# Altium footprint library WE-LHMD.PcbLib: 2 footprints
Each footprint in its own frame and in the unit in brackets; x right, y up, seen from the top. Pads: shape width x height; smd on the part's side, far side on the other; paste and mask are expansions set on the pad; w line width, h text height; cw(c..) or ccw(c..) is an arc to the next point about the centre after c.
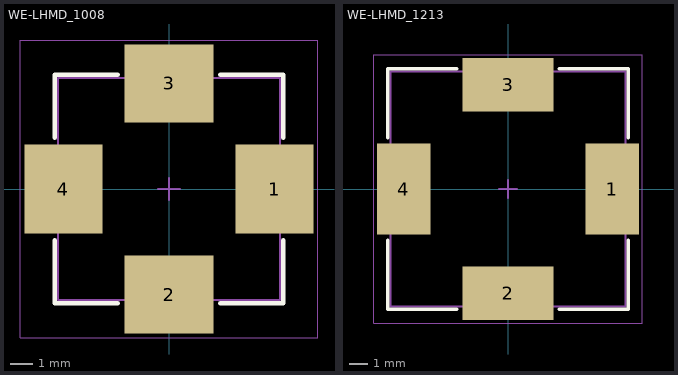
[diagram p0: the footprints below, top view; thin cyan lines are the x and y axes]

## WE-LHMD_1008 [mm] "SMT High Current Inductor, body 10x10mm"
height 8
pads (4):
  rect 3.5x4 smd: 1(4.75,0) 4(-4.75,0)
  rect 4x3.5 smd: 2(0,-4.75) 3(0,4.75)
Top Overlay:
  lines w0.2: -5.15,-2.3 -5.15,-5.15 -2.3,-5.15 ; -5.15,2.3 -5.15,5.15 -2.3,5.15 ; 2.3,-5.15 5.15,-5.15 5.15,-2.3 ; 2.3,5.15 5.15,5.15 5.15,2.3
Top Assembly:
  lines w0.1: -5,-5 5,-5 5,5 -5,5 -5,-5
Top Designator:
  text ".Designator" at -3.647,-0.357 h1
Top 3D Body:
  lines w0.1: -5,-5 5,-5 5,5 -5,5 -5,-5
Top Courtyard:
  lines w0.05: -6.7,-6.7 6.7,-6.7 6.7,6.7 -6.7,6.7 -6.7,-6.7
Top Component Center:
  lines w0.1: -0.5,0 0.5,0 ; 0,-0.5 0,0.5
3D body "74434xxxxxx.stp": height 8, standoff 0, extent -5.6,-5.6 5.6,5.6

## WE-LHMD_1213 [mm] "SMT High Current Inductor, body 12.85x12.85mm"
height 13
pads (4):
  rect 2.9x5 smd: 1(5.7,0) 4(-5.7,0)
  rect 5x2.9 smd: 2(0,-5.7) 3(0,5.7)
Top Overlay:
  lines w0.2: -6.575,-2.8 -6.575,-6.575 -2.8,-6.575 ; -6.575,2.8 -6.575,6.575 -2.8,6.575 ; 2.8,-6.575 6.575,-6.575 6.575,-2.8 ; 2.8,6.575 6.575,6.575 6.575,2.8
Top Assembly:
  lines w0.1: -6.425,-6.425 6.425,-6.425 6.425,6.425 -6.425,6.425 -6.425,-6.425
Top Designator:
  text ".Designator" at -3.647,-0.357 h1
Top 3D Body:
  lines w0.1: -6.425,-6.425 6.425,-6.425 6.425,6.425 -6.425,6.425 -6.425,-6.425
Top Courtyard:
  lines w0.05: -7.35,-7.35 7.35,-7.35 7.35,7.35 -7.35,7.35 -7.35,-7.35
Top Component Center:
  lines w0.1: -0.5,0 0.5,0 ; 0,-0.5 0,0.5
3D body "74434xxxxx.stp": height 13, standoff 0, extent -6.895,-6.895 6.895,6.895